# EAGLE library part ADXRS652BBGZ (library gyrolib)
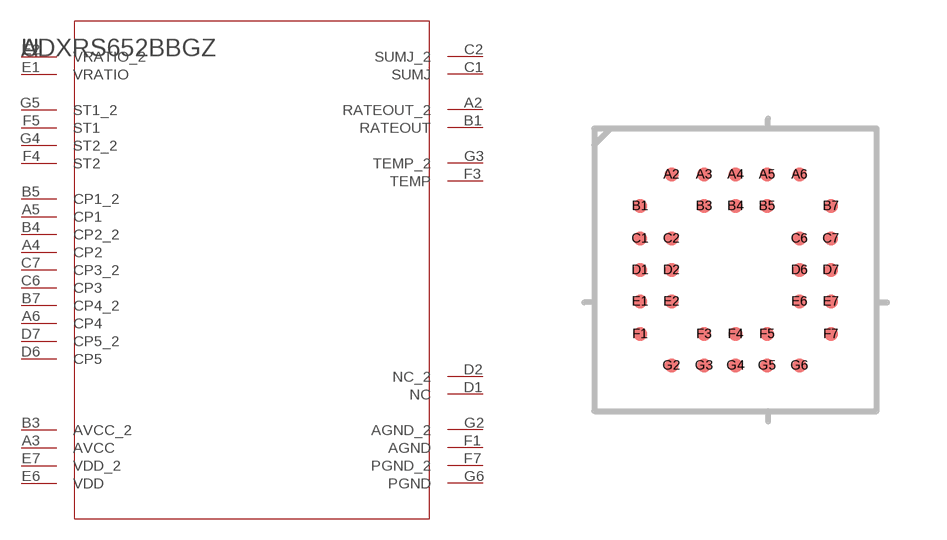
[diagram p5: symbol with the pads of BG_32_3; footprint BG_32_3]

Designator prefix -

## ADXRS652BBGZ  [BG_32_3]
A2  RATEOUT_2  pas
A3  AVCC  pwr
A4  CP2  pas
A5  CP1  pas
A6  CP4  pas
B1  RATEOUT  pas
B3  AVCC_2  pwr
B4  CP2_2  pas
B5  CP1_2  pas
B7  CP4_2  pas
C1  SUMJ  pas
C2  SUMJ_2  pas
C6  CP3  pas
C7  CP3_2  pas
D1  NC  pas
D2  NC_2  pas
D6  CP5  pas
D7  CP5_2  pas
E1  VRATIO  pwr
E2  VRATIO_2  pwr
E6  VDD  pwr
E7  VDD_2  pwr
F1  AGND  pas
F3  TEMP  pas
F4  ST2  pas
F5  ST1  pas
F7  PGND_2  pas
G2  AGND_2  pas
G3  TEMP_2  pas
G4  ST2_2  pas
G5  ST1_2  pas
G6  PGND  pas

## Footprint BG_32_3 (pad centres in mm)
smd 0.356 x 0.356: A2 -1.6,2.388; A3 -0.787,2.388; A4 0,2.388; A5 0.787,2.388; A6 1.6,2.388; B1 -2.388,1.6; B3 -0.787,1.6; B4 0,1.6; B5 0.787,1.6; B7 2.388,1.6; C1 -2.388,0.787; C2 -1.6,0.787; C6 1.6,0.787; C7 2.388,0.787; D1 -2.388,0; D2 -1.6,0; D6 1.6,0; D7 2.388,0; E1 -2.388,-0.787; E2 -1.6,-0.787; E6 1.6,-0.787; E7 2.388,-0.787; F1 -2.388,-1.6; F3 -0.787,-1.6; F4 0,-1.6; F5 0.787,-1.6; F7 2.388,-1.6; G2 -1.6,-2.388; G3 -0.787,-2.388; G4 0,-2.388; G5 0.787,-2.388; G6 1.6,-2.388